# Altium integrated library Analog Devices Switches and Multiplexers Analog Switches.IntLib: 575 symbols (part 7 of 23)
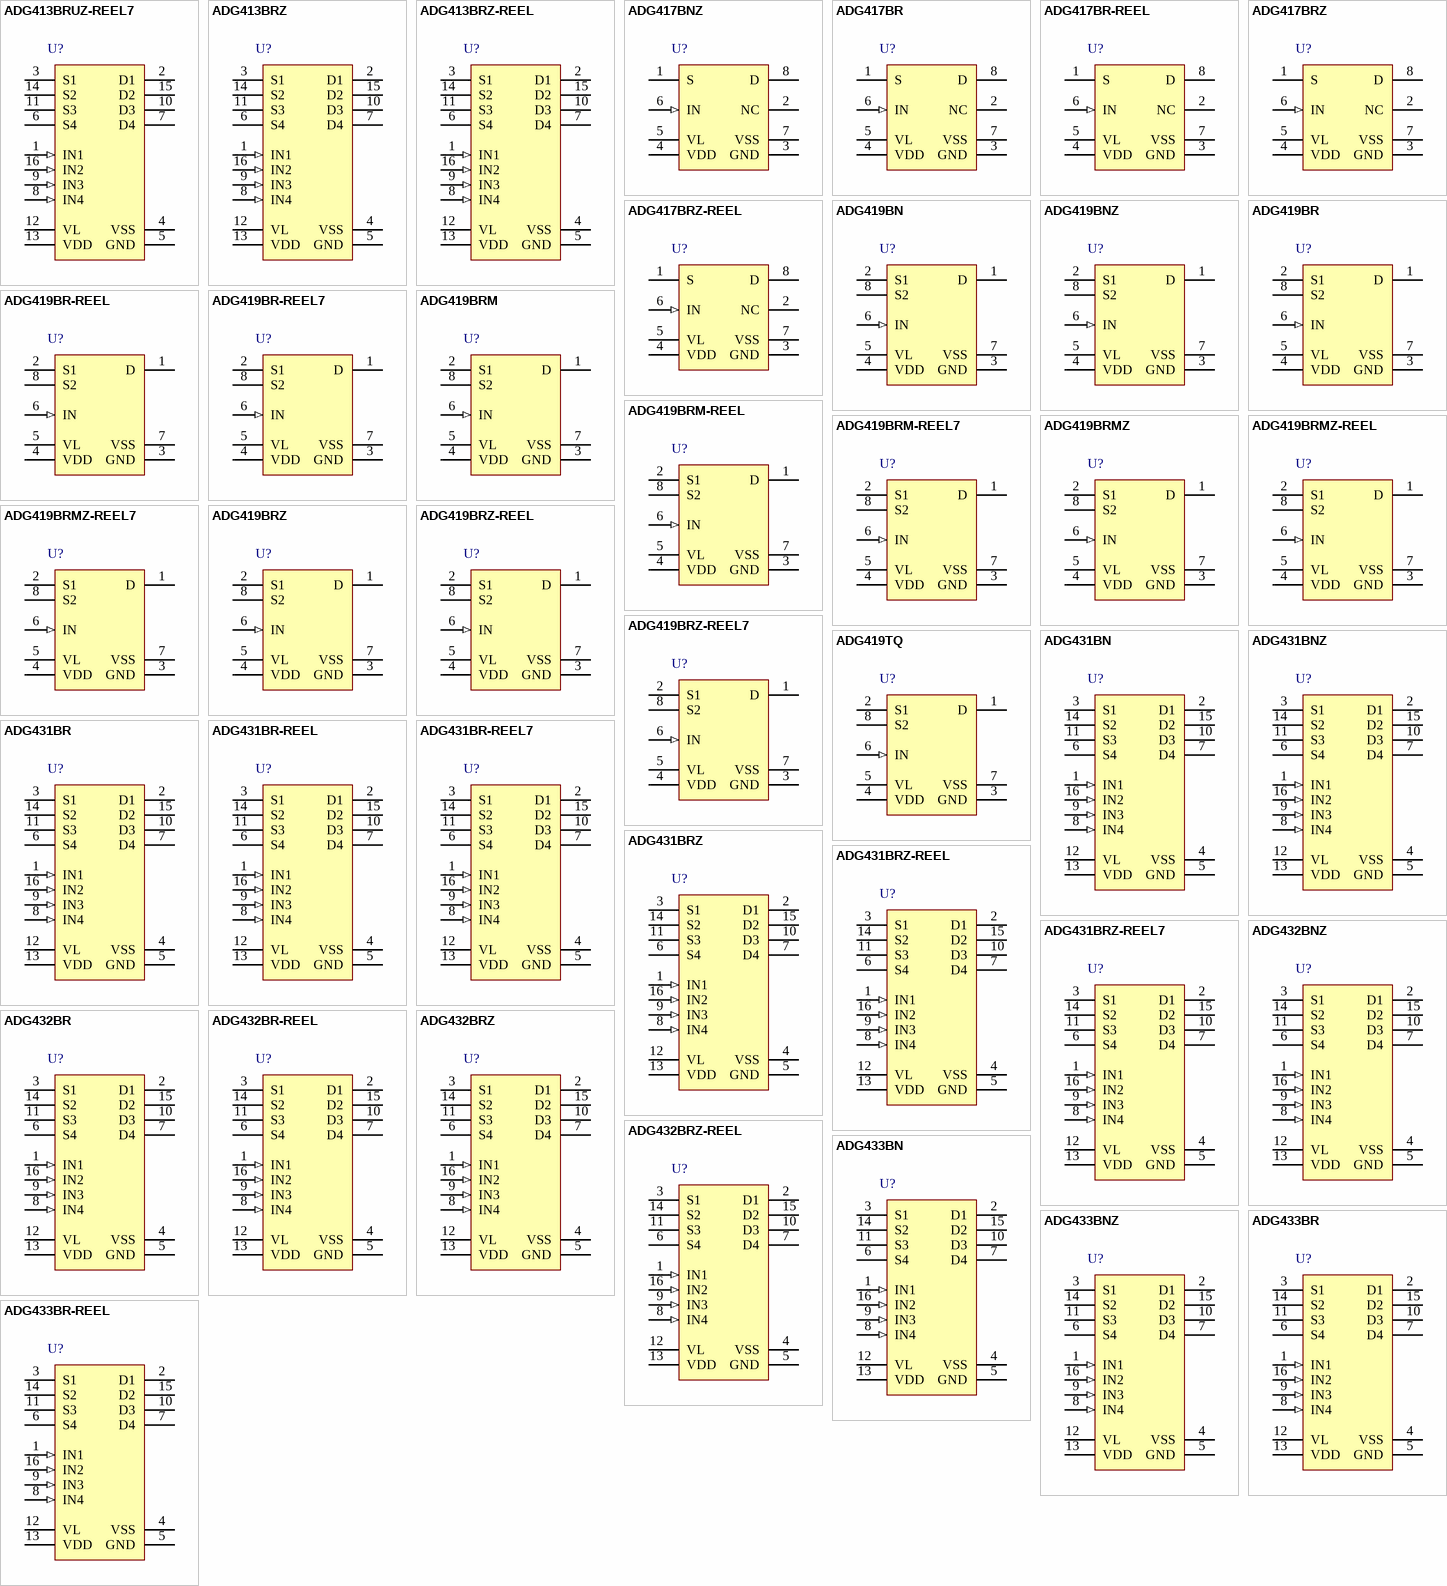
[diagram p21: symbols ADG413BRUZ-REEL7 to ADG433BR-REEL]

## ADG431BR-REEL7
designator U?
LC2MOS Precision Quad SPST Switches, 17 Ohm Ron, 16-pin SOIC (R-16), Reel; Manufacturer: Analog Devices; PartNumber: ADG431BR-REEL7; # Sw Functions: 4; Max Neg Supply: -16.5V; Max Pos Supply: +16.5V; Ron (ohms): 17, 28; t ON: 90ns, 165ns; DatasheetVersion: Rev. C; PackageVersion: 060606-A, 06/2006; PackageReference: R-16; PackageDescription: 16-Pin Standard Small Outline Package, Body 9.9 x 3.9 mm, Pitch 1.27 mm; Supplier 1: Digi-Key; Supplier Part Number 1: ADG431BR-REEL7-ND; Supplier 2: Mouser; Supplier Part Number 2: 584-ADG431BR-R7; Configuration: SPST; Packing: Reel; Mounting Technology: Surface Mount; Code_JEDEC: MS-012-AC; ComponentLink1Description: Manufacturer URL; ComponentLink1URL: http://www.analog.com/en/index.html; ComponentLink2Description: Datasheet; ComponentLink2URL: http://www.analog.com/static/imported-files/data_sheets/ADG431_432_433.pdf; ComponentLink3Description: Package Specification; ComponentLink3URL: http://www.analog.com/static/imported-files/packages/PKG_PDF/SOIC_Narrow%20(R)/R_16.pdf
footprint ADI-R-16_N (SOIC, 16-Leads, Body 9.9x3.9mm, Pitch 1.27mm, IPC Medium Density)
footprint ADI-R-16_L (SOIC, 16-Leads, Body 9.9x3.9mm, Pitch 1.27mm, IPC High Density)
footprint ADI-R-16_M (SOIC, 16-Leads, Body 9.9x3.9mm, Pitch 1.27mm, IPC Low Density)
pins: 1 IN1 (in) "Logic Control Input.", 2 D1 "Drain Terminal. Can be an input or output.", 3 S1 "Source Terminal. Can be an input or output.", 4 VSS (power) "Most Negative Power Supply Potential.", 5 GND (power) "Ground (0 V) Reference.", 6 S4 "Source Terminal. Can be an input or output.", 7 D4 "Drain Terminal. Can be an input or output.", 8 IN4 (in) "Logic Control Input.", 9 IN3 (in) "Logic Control Input.", 10 D3 "Drain Terminal. Can be an input or output.", 11 S3 "Source Terminal. Can be an input or output.", 12 VL (power) "Logic Supply Voltage.", 13 VDD (power) "Most Positive Power Supply Potential.", 14 S2 "Source Terminal. Can be an input or output.", 15 D2 "Drain Terminal. Can be an input or output.", 16 IN2 (in) "Logic Control Input."

## ADG431BRZ
designator U?
LC2MOS Precision Quad SPST Switches, 17 Ohm Ron, 16-pin SOIC (R-16), Tube; Manufacturer: Analog Devices; PartNumber: ADG431BRZ; # Sw Functions: 4; Max Neg Supply: -16.5V; Max Pos Supply: +16.5V; Ron (ohms): 17, 28; t ON: 90ns, 165ns; DatasheetVersion: Rev. C; PackageVersion: 060606-A, 06/2006; PackageReference: R-16; PackageDescription: 16-Pin Standard Small Outline Package, Body 9.9 x 3.9 mm, Pitch 1.27 mm; Supplier 1: Digi-Key; Supplier Part Number 1: ADG431BRZ-ND; Supplier 2: Farnell; Supplier Part Number 2: 2305649; Supplier 3: Newark; Supplier Part Number 3: 59K1277; Supplier 4: Mouser; Supplier Part Number 4: 584-ADG431BRZ; Configuration: SPST; Packing: Tube; Mounting Technology: Surface Mount; Code_JEDEC: MS-012-AC; ComponentLink1Description: Manufacturer URL; ComponentLink1URL: http://www.analog.com/en/index.html; ComponentLink2Description: Datasheet; ComponentLink2URL: http://www.analog.com/static/imported-files/data_sheets/ADG431_432_433.pdf; ComponentLink3Description: Package Specification; ComponentLink3URL: http://www.analog.com/static/imported-files/packages/PKG_PDF/SOIC_Narrow%20(R)/R_16.pdf
footprint ADI-R-16_N (SOIC, 16-Leads, Body 9.9x3.9mm, Pitch 1.27mm, IPC Medium Density)
footprint ADI-R-16_L (SOIC, 16-Leads, Body 9.9x3.9mm, Pitch 1.27mm, IPC High Density)
footprint ADI-R-16_M (SOIC, 16-Leads, Body 9.9x3.9mm, Pitch 1.27mm, IPC Low Density)
pins: 1 IN1 (in) "Logic Control Input.", 2 D1 "Drain Terminal. Can be an input or output.", 3 S1 "Source Terminal. Can be an input or output.", 4 VSS (power) "Most Negative Power Supply Potential.", 5 GND (power) "Ground (0 V) Reference.", 6 S4 "Source Terminal. Can be an input or output.", 7 D4 "Drain Terminal. Can be an input or output.", 8 IN4 (in) "Logic Control Input.", 9 IN3 (in) "Logic Control Input.", 10 D3 "Drain Terminal. Can be an input or output.", 11 S3 "Source Terminal. Can be an input or output.", 12 VL (power) "Logic Supply Voltage.", 13 VDD (power) "Most Positive Power Supply Potential.", 14 S2 "Source Terminal. Can be an input or output.", 15 D2 "Drain Terminal. Can be an input or output.", 16 IN2 (in) "Logic Control Input."

## ADG431BRZ-REEL
designator U?
LC2MOS Precision Quad SPST Switches, 17 Ohm Ron, 16-pin SOIC (R-16), Reel; Manufacturer: Analog Devices; PartNumber: ADG431BRZ-REEL; # Sw Functions: 4; Max Neg Supply: -16.5V; Max Pos Supply: +16.5V; Ron (ohms): 17, 28; t ON: 90ns, 165ns; DatasheetVersion: Rev. C; PackageVersion: 060606-A, 06/2006; PackageReference: R-16; PackageDescription: 16-Pin Standard Small Outline Package, Body 9.9 x 3.9 mm, Pitch 1.27 mm; Supplier 1: Digi-Key; Supplier Part Number 1: ADG431BRZ-REEL-ND; Supplier 2: Newark; Supplier Part Number 2: 59K1278; Supplier 3: Mouser; Supplier Part Number 3: 584-ADG431BRZ-R; Configuration: SPST; Packing: Reel; Mounting Technology: Surface Mount; Code_JEDEC: MS-012-AC; ComponentLink1Description: Manufacturer URL; ComponentLink1URL: http://www.analog.com/en/index.html; ComponentLink2Description: Datasheet; ComponentLink2URL: http://www.analog.com/static/imported-files/data_sheets/ADG431_432_433.pdf; ComponentLink3Description: Package Specification; ComponentLink3URL: http://www.analog.com/static/imported-files/packages/PKG_PDF/SOIC_Narrow%20(R)/R_16.pdf
footprint ADI-R-16_N (SOIC, 16-Leads, Body 9.9x3.9mm, Pitch 1.27mm, IPC Medium Density)
footprint ADI-R-16_L (SOIC, 16-Leads, Body 9.9x3.9mm, Pitch 1.27mm, IPC High Density)
footprint ADI-R-16_M (SOIC, 16-Leads, Body 9.9x3.9mm, Pitch 1.27mm, IPC Low Density)
pins: 1 IN1 (in) "Logic Control Input.", 2 D1 "Drain Terminal. Can be an input or output.", 3 S1 "Source Terminal. Can be an input or output.", 4 VSS (power) "Most Negative Power Supply Potential.", 5 GND (power) "Ground (0 V) Reference.", 6 S4 "Source Terminal. Can be an input or output.", 7 D4 "Drain Terminal. Can be an input or output.", 8 IN4 (in) "Logic Control Input.", 9 IN3 (in) "Logic Control Input.", 10 D3 "Drain Terminal. Can be an input or output.", 11 S3 "Source Terminal. Can be an input or output.", 12 VL (power) "Logic Supply Voltage.", 13 VDD (power) "Most Positive Power Supply Potential.", 14 S2 "Source Terminal. Can be an input or output.", 15 D2 "Drain Terminal. Can be an input or output.", 16 IN2 (in) "Logic Control Input."

## ADG431BRZ-REEL7
designator U?
LC2MOS Precision Quad SPST Switches, 17 Ohm Ron, 16-pin SOIC (R-16), Reel; Manufacturer: Analog Devices; PartNumber: ADG431BRZ-REEL7; # Sw Functions: 4; Max Neg Supply: -16.5V; Max Pos Supply: +16.5V; Ron (ohms): 17, 28; t ON: 90ns, 165ns; DatasheetVersion: Rev. C; PackageVersion: 060606-A, 06/2006; PackageReference: R-16; PackageDescription: 16-Pin Standard Small Outline Package, Body 9.9 x 3.9 mm, Pitch 1.27 mm; Supplier 1: Digi-Key; Supplier Part Number 1: ADG431BRZ-REEL7TR-ND; Supplier 2: Digi-Key; Supplier Part Number 2: ADG431BRZ-REEL7CT-ND; Supplier 3: Digi-Key; Supplier Part Number 3: ADG431BRZ-REEL7DKR-ND; Supplier 4: Mouser; Supplier Part Number 4: 584-ADG431BRZ-R7; Configuration: SPST; Packing: Reel; Mounting Technology: Surface Mount; Code_JEDEC: MS-012-AC; ComponentLink1Description: Manufacturer URL; ComponentLink1URL: http://www.analog.com/en/index.html; ComponentLink2Description: Datasheet; ComponentLink2URL: http://www.analog.com/static/imported-files/data_sheets/ADG431_432_433.pdf; ComponentLink3Description: Package Specification; ComponentLink3URL: http://www.analog.com/static/imported-files/packages/PKG_PDF/SOIC_Narrow%20(R)/R_16.pdf
footprint ADI-R-16_N (SOIC, 16-Leads, Body 9.9x3.9mm, Pitch 1.27mm, IPC Medium Density)
footprint ADI-R-16_L (SOIC, 16-Leads, Body 9.9x3.9mm, Pitch 1.27mm, IPC High Density)
footprint ADI-R-16_M (SOIC, 16-Leads, Body 9.9x3.9mm, Pitch 1.27mm, IPC Low Density)
pins: 1 IN1 (in) "Logic Control Input.", 2 D1 "Drain Terminal. Can be an input or output.", 3 S1 "Source Terminal. Can be an input or output.", 4 VSS (power) "Most Negative Power Supply Potential.", 5 GND (power) "Ground (0 V) Reference.", 6 S4 "Source Terminal. Can be an input or output.", 7 D4 "Drain Terminal. Can be an input or output.", 8 IN4 (in) "Logic Control Input.", 9 IN3 (in) "Logic Control Input.", 10 D3 "Drain Terminal. Can be an input or output.", 11 S3 "Source Terminal. Can be an input or output.", 12 VL (power) "Logic Supply Voltage.", 13 VDD (power) "Most Positive Power Supply Potential.", 14 S2 "Source Terminal. Can be an input or output.", 15 D2 "Drain Terminal. Can be an input or output.", 16 IN2 (in) "Logic Control Input."

## ADG432BNZ
designator U?
LC2MOS Precision Quad SPST Switches, 17 Ohm Ron, 16-pin DIP (N-16), Tube; Manufacturer: Analog Devices; PartNumber: ADG432BNZ; # Sw Functions: 4; Max Neg Supply: -16.5V; Max Pos Supply: +16.5V; Ron (ohms): 17, 28; t ON: 90ns, 165ns; DatasheetVersion: Rev. C; PackageVersion: 070706-A, 07/2006; PackageReference: N-16; PackageDescription: 16-Pin Plastic Dual In-Line Package, Row spacing 7.62 mm, Pitch 2.54 mm; Supplier 1: Digi-Key; Supplier Part Number 1: ADG432BNZ-ND; Supplier 2: Newark; Supplier Part Number 2: 59K1283; Configuration: SPST; Packing: Tube; Mounting Technology: Through Hole; Code_JEDEC: MS-001; ComponentLink1Description: Manufacturer URL; ComponentLink1URL: http://www.analog.com/en/index.html; ComponentLink2Description: Datasheet; ComponentLink2URL: http://www.analog.com/static/imported-files/data_sheets/ADG431_432_433.pdf; ComponentLink3Description: Package Specification; ComponentLink3URL: http://www.analog.com/static/imported-files/packages/44768431550332N_16.pdf
footprint ADI-N-16 (DIP, 16-Leads, Body 20.07x6.6mm, Pitch 2.54mm)
pins: 1 IN1 (in) "Logic control input.", 2 D1 "Drain terminal. May be an input or output.", 3 S1 "Source terminal. May be an input or output.", 4 VSS (power) "Most negative power supply potential in dual supplies. In single supply applications, it may be connected to GND.", 5 GND (power) "Ground (0 V) reference.", 6 S4 "Source terminal. May be an input or output.", 7 D4 "Drain terminal. May be an input or output.", 8 IN4 (in) "Logic control input.", 9 IN3 (in) "Logic control input.", 10 D3 "Drain terminal. May be an input or output.", 11 S3 "Source terminal. May be an input or output.", 12 VL (power) "Logic power supply (5 V).", 13 VDD (power) "Most positive power supply potential.", 14 S2 "Source terminal. May be an input or output.", 15 D2 "Drain terminal. May be an input or output.", 16 IN2 (in) "Logic control input."

## ADG432BR
designator U?
LC2MOS Precision Quad SPST Switches, 17 Ohm Ron, 16-pin SOIC (R-16), Tube; Manufacturer: Analog Devices; PartNumber: ADG432BR; # Sw Functions: 4; Max Neg Supply: -16.5V; Max Pos Supply: +16.5V; Ron (ohms): 17, 28; t ON: 90ns, 165ns; DatasheetVersion: Rev. C; PackageVersion: 060606-A, 06/2006; PackageReference: R-16; PackageDescription: 16-Pin Standard Small Outline Package, Body 9.9 x 3.9 mm, Pitch 1.27 mm; Supplier 1: Digi-Key; Supplier Part Number 1: ADG432BR-ND; Supplier 2: Mouser; Supplier Part Number 2: 584-ADG432BR; Configuration: SPST; Packing: Tube; Mounting Technology: Surface Mount; Code_JEDEC: MS-012-AC; ComponentLink1Description: Manufacturer URL; ComponentLink1URL: http://www.analog.com/en/index.html; ComponentLink2Description: Datasheet; ComponentLink2URL: http://www.analog.com/static/imported-files/data_sheets/ADG431_432_433.pdf; ComponentLink3Description: Package Specification; ComponentLink3URL: http://www.analog.com/static/imported-files/packages/PKG_PDF/SOIC_Narrow%20(R)/R_16.pdf
footprint ADI-R-16_N (SOIC, 16-Leads, Body 9.9x3.9mm, Pitch 1.27mm, IPC Medium Density)
footprint ADI-R-16_L (SOIC, 16-Leads, Body 9.9x3.9mm, Pitch 1.27mm, IPC High Density)
footprint ADI-R-16_M (SOIC, 16-Leads, Body 9.9x3.9mm, Pitch 1.27mm, IPC Low Density)
pins: 1 IN1 (in) "Logic control input.", 2 D1 "Drain terminal. May be an input or output.", 3 S1 "Source terminal. May be an input or output.", 4 VSS (power) "Most negative power supply potential in dual supplies. In single supply applications, it may be connected to GND.", 5 GND (power) "Ground (0 V) reference.", 6 S4 "Source terminal. May be an input or output.", 7 D4 "Drain terminal. May be an input or output.", 8 IN4 (in) "Logic control input.", 9 IN3 (in) "Logic control input.", 10 D3 "Drain terminal. May be an input or output.", 11 S3 "Source terminal. May be an input or output.", 12 VL (power) "Logic power supply (5 V).", 13 VDD (power) "Most positive power supply potential.", 14 S2 "Source terminal. May be an input or output.", 15 D2 "Drain terminal. May be an input or output.", 16 IN2 (in) "Logic control input."

## ADG432BR-REEL
designator U?
LC2MOS Precision Quad SPST Switches, 17 Ohm Ron, 16-pin SOIC (R-16), Reel; Manufacturer: Analog Devices; PartNumber: ADG432BR-REEL; # Sw Functions: 4; Max Neg Supply: -16.5V; Max Pos Supply: +16.5V; Ron (ohms): 17, 28; t ON: 90ns, 165ns; DatasheetVersion: Rev. C; PackageVersion: 060606-A, 06/2006; PackageReference: R-16; PackageDescription: 16-Pin Standard Small Outline Package, Body 9.9 x 3.9 mm, Pitch 1.27 mm; Supplier 1: Digi-Key; Supplier Part Number 1: ADG432BR-REEL-ND; Supplier 2: Newark; Supplier Part Number 2: 09B7052; Supplier 3: Mouser; Supplier Part Number 3: 584-ADG432BR-R; Configuration: SPST; Packing: Reel; Mounting Technology: Surface Mount; Code_JEDEC: MS-012-AC; ComponentLink1Description: Manufacturer URL; ComponentLink1URL: http://www.analog.com/en/index.html; ComponentLink2Description: Datasheet; ComponentLink2URL: http://www.analog.com/static/imported-files/data_sheets/ADG431_432_433.pdf; ComponentLink3Description: Package Specification; ComponentLink3URL: http://www.analog.com/static/imported-files/packages/PKG_PDF/SOIC_Narrow%20(R)/R_16.pdf
footprint ADI-R-16_N (SOIC, 16-Leads, Body 9.9x3.9mm, Pitch 1.27mm, IPC Medium Density)
footprint ADI-R-16_L (SOIC, 16-Leads, Body 9.9x3.9mm, Pitch 1.27mm, IPC High Density)
footprint ADI-R-16_M (SOIC, 16-Leads, Body 9.9x3.9mm, Pitch 1.27mm, IPC Low Density)
pins: 1 IN1 (in) "Logic control input.", 2 D1 "Drain terminal. May be an input or output.", 3 S1 "Source terminal. May be an input or output.", 4 VSS (power) "Most negative power supply potential in dual supplies. In single supply applications, it may be connected to GND.", 5 GND (power) "Ground (0 V) reference.", 6 S4 "Source terminal. May be an input or output.", 7 D4 "Drain terminal. May be an input or output.", 8 IN4 (in) "Logic control input.", 9 IN3 (in) "Logic control input.", 10 D3 "Drain terminal. May be an input or output.", 11 S3 "Source terminal. May be an input or output.", 12 VL (power) "Logic power supply (5 V).", 13 VDD (power) "Most positive power supply potential.", 14 S2 "Source terminal. May be an input or output.", 15 D2 "Drain terminal. May be an input or output.", 16 IN2 (in) "Logic control input."

## ADG432BRZ
designator U?
LC2MOS Precision Quad SPST Switches, 17 Ohm Ron, 16-pin SOIC (R-16), Tube; Manufacturer: Analog Devices; PartNumber: ADG432BRZ; # Sw Functions: 4; Max Neg Supply: -16.5V; Max Pos Supply: +16.5V; Ron (ohms): 17, 28; t ON: 90ns, 165ns; DatasheetVersion: Rev. C; PackageVersion: 060606-A, 06/2006; PackageReference: R-16; PackageDescription: 16-Pin Standard Small Outline Package, Body 9.9 x 3.9 mm, Pitch 1.27 mm; Supplier 1: Digi-Key; Supplier Part Number 1: ADG432BRZ-ND; Supplier 2: Farnell; Supplier Part Number 2: 2305650; Supplier 3: Newark; Supplier Part Number 3: 59K1284; Supplier 4: Mouser; Supplier Part Number 4: 584-ADG432BRZ; Configuration: SPST; Packing: Tube; Mounting Technology: Surface Mount; Code_JEDEC: MS-012-AC; ComponentLink1Description: Manufacturer URL; ComponentLink1URL: http://www.analog.com/en/index.html; ComponentLink2Description: Datasheet; ComponentLink2URL: http://www.analog.com/static/imported-files/data_sheets/ADG431_432_433.pdf; ComponentLink3Description: Package Specification; ComponentLink3URL: http://www.analog.com/static/imported-files/packages/PKG_PDF/SOIC_Narrow%20(R)/R_16.pdf
footprint ADI-R-16_N (SOIC, 16-Leads, Body 9.9x3.9mm, Pitch 1.27mm, IPC Medium Density)
footprint ADI-R-16_L (SOIC, 16-Leads, Body 9.9x3.9mm, Pitch 1.27mm, IPC High Density)
footprint ADI-R-16_M (SOIC, 16-Leads, Body 9.9x3.9mm, Pitch 1.27mm, IPC Low Density)
pins: 1 IN1 (in) "Logic control input.", 2 D1 "Drain terminal. May be an input or output.", 3 S1 "Source terminal. May be an input or output.", 4 VSS (power) "Most negative power supply potential in dual supplies. In single supply applications, it may be connected to GND.", 5 GND (power) "Ground (0 V) reference.", 6 S4 "Source terminal. May be an input or output.", 7 D4 "Drain terminal. May be an input or output.", 8 IN4 (in) "Logic control input.", 9 IN3 (in) "Logic control input.", 10 D3 "Drain terminal. May be an input or output.", 11 S3 "Source terminal. May be an input or output.", 12 VL (power) "Logic power supply (5 V).", 13 VDD (power) "Most positive power supply potential.", 14 S2 "Source terminal. May be an input or output.", 15 D2 "Drain terminal. May be an input or output.", 16 IN2 (in) "Logic control input."

## ADG432BRZ-REEL
designator U?
LC2MOS Precision Quad SPST Switches, 17 Ohm Ron, 16-pin SOIC (R-16), Reel; Manufacturer: Analog Devices; PartNumber: ADG432BRZ-REEL; # Sw Functions: 4; Max Neg Supply: -16.5V; Max Pos Supply: +16.5V; Ron (ohms): 17, 28; t ON: 90ns, 165ns; DatasheetVersion: Rev. C; PackageVersion: 060606-A, 06/2006; PackageReference: R-16; PackageDescription: 16-Pin Standard Small Outline Package, Body 9.9 x 3.9 mm, Pitch 1.27 mm; Supplier 1: Digi-Key; Supplier Part Number 1: ADG432BRZ-REEL-ND; Supplier 2: Mouser; Supplier Part Number 2: 584-ADG432BRZ-R; Configuration: SPST; Packing: Reel; Mounting Technology: Surface Mount; Code_JEDEC: MS-012-AC; ComponentLink1Description: Manufacturer URL; ComponentLink1URL: http://www.analog.com/en/index.html; ComponentLink2Description: Datasheet; ComponentLink2URL: http://www.analog.com/static/imported-files/data_sheets/ADG431_432_433.pdf; ComponentLink3Description: Package Specification; ComponentLink3URL: http://www.analog.com/static/imported-files/packages/PKG_PDF/SOIC_Narrow%20(R)/R_16.pdf
footprint ADI-R-16_N (SOIC, 16-Leads, Body 9.9x3.9mm, Pitch 1.27mm, IPC Medium Density)
footprint ADI-R-16_L (SOIC, 16-Leads, Body 9.9x3.9mm, Pitch 1.27mm, IPC High Density)
footprint ADI-R-16_M (SOIC, 16-Leads, Body 9.9x3.9mm, Pitch 1.27mm, IPC Low Density)
pins: 1 IN1 (in) "Logic control input.", 2 D1 "Drain terminal. May be an input or output.", 3 S1 "Source terminal. May be an input or output.", 4 VSS (power) "Most negative power supply potential in dual supplies. In single supply applications, it may be connected to GND.", 5 GND (power) "Ground (0 V) reference.", 6 S4 "Source terminal. May be an input or output.", 7 D4 "Drain terminal. May be an input or output.", 8 IN4 (in) "Logic control input.", 9 IN3 (in) "Logic control input.", 10 D3 "Drain terminal. May be an input or output.", 11 S3 "Source terminal. May be an input or output.", 12 VL (power) "Logic power supply (5 V).", 13 VDD (power) "Most positive power supply potential.", 14 S2 "Source terminal. May be an input or output.", 15 D2 "Drain terminal. May be an input or output.", 16 IN2 (in) "Logic control input."

## ADG433BN
designator U?
LC2MOS Precision Quad SPST Switches, 17 Ohm Ron, 16-pin DIP (N-16), Tube; Manufacturer: Analog Devices; PartNumber: ADG433BN; # Sw Functions: 4; Max Neg Supply: -16.5V; Max Pos Supply: +16.5V; Ron (ohms): 17, 28; t ON: 90ns, 165ns; DatasheetVersion: Rev. C; PackageVersion: 070706-A, 07/2006; PackageReference: N-16; PackageDescription: 16-Pin Plastic Dual In-Line Package, Row spacing 7.62 mm, Pitch 2.54 mm; Supplier 1: Digi-Key; Supplier Part Number 1: ADG433BN-ND; Configuration: SPST; Packing: Tube; Mounting Technology: Through Hole; Code_JEDEC: MS-001; ComponentLink1Description: Manufacturer URL; ComponentLink1URL: http://www.analog.com/en/index.html; ComponentLink2Description: Datasheet; ComponentLink2URL: http://www.analog.com/static/imported-files/data_sheets/ADG431_432_433.pdf; ComponentLink3Description: Package Specification; ComponentLink3URL: http://www.analog.com/static/imported-files/packages/44768431550332N_16.pdf
footprint ADI-N-16 (DIP, 16-Leads, Body 20.07x6.6mm, Pitch 2.54mm)
pins: 1 IN1 (in) "Logic control input.", 2 D1 "Drain terminal. May be an input or output.", 3 S1 "Source terminal. May be an input or output.", 4 VSS (power) "Most negative power supply potential in dual supplies. In single supply applications, it may be connected to GND.", 5 GND (power) "Ground (0 V) reference.", 6 S4 "Source terminal. May be an input or output.", 7 D4 "Drain terminal. May be an input or output.", 8 IN4 (in) "Logic control input.", 9 IN3 (in) "Logic control input.", 10 D3 "Drain terminal. May be an input or output.", 11 S3 "Source terminal. May be an input or output.", 12 VL (power) "Logic power supply (5 V).", 13 VDD (power) "Most positive power supply potential.", 14 S2 "Source terminal. May be an input or output.", 15 D2 "Drain terminal. May be an input or output.", 16 IN2 (in) "Logic control input."

## ADG433BNZ
designator U?
LC2MOS Precision Quad SPST Switches, 17 Ohm Ron, 16-pin DIP (N-16), Tube; Manufacturer: Analog Devices; PartNumber: ADG433BNZ; # Sw Functions: 4; Max Neg Supply: -16.5V; Max Pos Supply: +16.5V; Ron (ohms): 17, 28; t ON: 90ns, 165ns; DatasheetVersion: Rev. C; PackageVersion: 070706-A, 07/2006; PackageReference: N-16; PackageDescription: 16-Pin Plastic Dual In-Line Package, Row spacing 7.62 mm, Pitch 2.54 mm; Supplier 1: Digi-Key; Supplier Part Number 1: ADG433BNZ-ND; Configuration: SPST; Packing: Tube; Mounting Technology: Through Hole; Code_JEDEC: MS-001; ComponentLink1Description: Manufacturer URL; ComponentLink1URL: http://www.analog.com/en/index.html; ComponentLink2Description: Datasheet; ComponentLink2URL: http://www.analog.com/static/imported-files/data_sheets/ADG431_432_433.pdf; ComponentLink3Description: Package Specification; ComponentLink3URL: http://www.analog.com/static/imported-files/packages/44768431550332N_16.pdf
footprint ADI-N-16 (DIP, 16-Leads, Body 20.07x6.6mm, Pitch 2.54mm)
pins: 1 IN1 (in) "Logic control input.", 2 D1 "Drain terminal. May be an input or output.", 3 S1 "Source terminal. May be an input or output.", 4 VSS (power) "Most negative power supply potential in dual supplies. In single supply applications, it may be connected to GND.", 5 GND (power) "Ground (0 V) reference.", 6 S4 "Source terminal. May be an input or output.", 7 D4 "Drain terminal. May be an input or output.", 8 IN4 (in) "Logic control input.", 9 IN3 (in) "Logic control input.", 10 D3 "Drain terminal. May be an input or output.", 11 S3 "Source terminal. May be an input or output.", 12 VL (power) "Logic power supply (5 V).", 13 VDD (power) "Most positive power supply potential.", 14 S2 "Source terminal. May be an input or output.", 15 D2 "Drain terminal. May be an input or output.", 16 IN2 (in) "Logic control input."

## ADG433BR
designator U?
LC2MOS Precision Quad SPST Switches, 17 Ohm Ron, 16-pin SOIC (R-16), Tube; Manufacturer: Analog Devices; PartNumber: ADG433BR; # Sw Functions: 4; Max Neg Supply: -16.5V; Max Pos Supply: +16.5V; Ron (ohms): 17, 28; t ON: 90ns, 165ns; DatasheetVersion: Rev. C; PackageVersion: 060606-A, 06/2006; PackageReference: R-16; PackageDescription: 16-Pin Standard Small Outline Package, Body 9.9 x 3.9 mm, Pitch 1.27 mm; Supplier 1: Digi-Key; Supplier Part Number 1: ADG433BR-ND; Supplier 2: Mouser; Supplier Part Number 2: 584-ADG433BR; Configuration: SPST; Packing: Tube; Mounting Technology: Surface Mount; Code_JEDEC: MS-012-AC; ComponentLink1Description: Manufacturer URL; ComponentLink1URL: http://www.analog.com/en/index.html; ComponentLink2Description: Datasheet; ComponentLink2URL: http://www.analog.com/static/imported-files/data_sheets/ADG431_432_433.pdf; ComponentLink3Description: Package Specification; ComponentLink3URL: http://www.analog.com/static/imported-files/packages/PKG_PDF/SOIC_Narrow%20(R)/R_16.pdf
footprint ADI-R-16_N (SOIC, 16-Leads, Body 9.9x3.9mm, Pitch 1.27mm, IPC Medium Density)
footprint ADI-R-16_L (SOIC, 16-Leads, Body 9.9x3.9mm, Pitch 1.27mm, IPC High Density)
footprint ADI-R-16_M (SOIC, 16-Leads, Body 9.9x3.9mm, Pitch 1.27mm, IPC Low Density)
pins: 1 IN1 (in) "Logic Control Input.", 2 D1 "Drain Terminal. Can be an input or output.", 3 S1 "Source Terminal. Can be an input or output.", 4 VSS (power) "Most Negative Power Supply Potential.", 5 GND (power) "Ground (0 V) Reference.", 6 S4 "Source Terminal. Can be an input or output.", 7 D4 "Drain Terminal. Can be an input or output.", 8 IN4 (in) "Logic Control Input.", 9 IN3 (in) "Logic Control Input.", 10 D3 "Drain Terminal. Can be an input or output.", 11 S3 "Source Terminal. Can be an input or output.", 12 VL (power) "Logic Supply Voltage.", 13 VDD (power) "Most Positive Power Supply Potential.", 14 S2 "Source Terminal. Can be an input or output.", 15 D2 "Drain Terminal. Can be an input or output.", 16 IN2 (in) "Logic Control Input."

## ADG433BR-REEL
designator U?
LC2MOS Precision Quad SPST Switches, 17 Ohm Ron, 16-pin SOIC (R-16), Reel; Manufacturer: Analog Devices; PartNumber: ADG433BR-REEL; # Sw Functions: 4; Max Neg Supply: -16.5V; Max Pos Supply: +16.5V; Ron (ohms): 17, 28; t ON: 90ns, 165ns; DatasheetVersion: Rev. C; PackageVersion: 060606-A, 06/2006; PackageReference: R-16; PackageDescription: 16-Pin Standard Small Outline Package, Body 9.9 x 3.9 mm, Pitch 1.27 mm; Configuration: SPST; Packing: Reel; Mounting Technology: Surface Mount; Code_JEDEC: MS-012-AC; ComponentLink1Description: Manufacturer URL; ComponentLink1URL: http://www.analog.com/en/index.html; ComponentLink2Description: Datasheet; ComponentLink2URL: http://www.analog.com/static/imported-files/data_sheets/ADG431_432_433.pdf; ComponentLink3Description: Package Specification; ComponentLink3URL: http://www.analog.com/static/imported-files/packages/PKG_PDF/SOIC_Narrow%20(R)/R_16.pdf
footprint ADI-R-16_N (SOIC, 16-Leads, Body 9.9x3.9mm, Pitch 1.27mm, IPC Medium Density)
footprint ADI-R-16_L (SOIC, 16-Leads, Body 9.9x3.9mm, Pitch 1.27mm, IPC High Density)
footprint ADI-R-16_M (SOIC, 16-Leads, Body 9.9x3.9mm, Pitch 1.27mm, IPC Low Density)
pins: 1 IN1 (in) "Logic Control Input.", 2 D1 "Drain Terminal. Can be an input or output.", 3 S1 "Source Terminal. Can be an input or output.", 4 VSS (power) "Most Negative Power Supply Potential.", 5 GND (power) "Ground (0 V) Reference.", 6 S4 "Source Terminal. Can be an input or output.", 7 D4 "Drain Terminal. Can be an input or output.", 8 IN4 (in) "Logic Control Input.", 9 IN3 (in) "Logic Control Input.", 10 D3 "Drain Terminal. Can be an input or output.", 11 S3 "Source Terminal. Can be an input or output.", 12 VL (power) "Logic Supply Voltage.", 13 VDD (power) "Most Positive Power Supply Potential.", 14 S2 "Source Terminal. Can be an input or output.", 15 D2 "Drain Terminal. Can be an input or output.", 16 IN2 (in) "Logic Control Input."

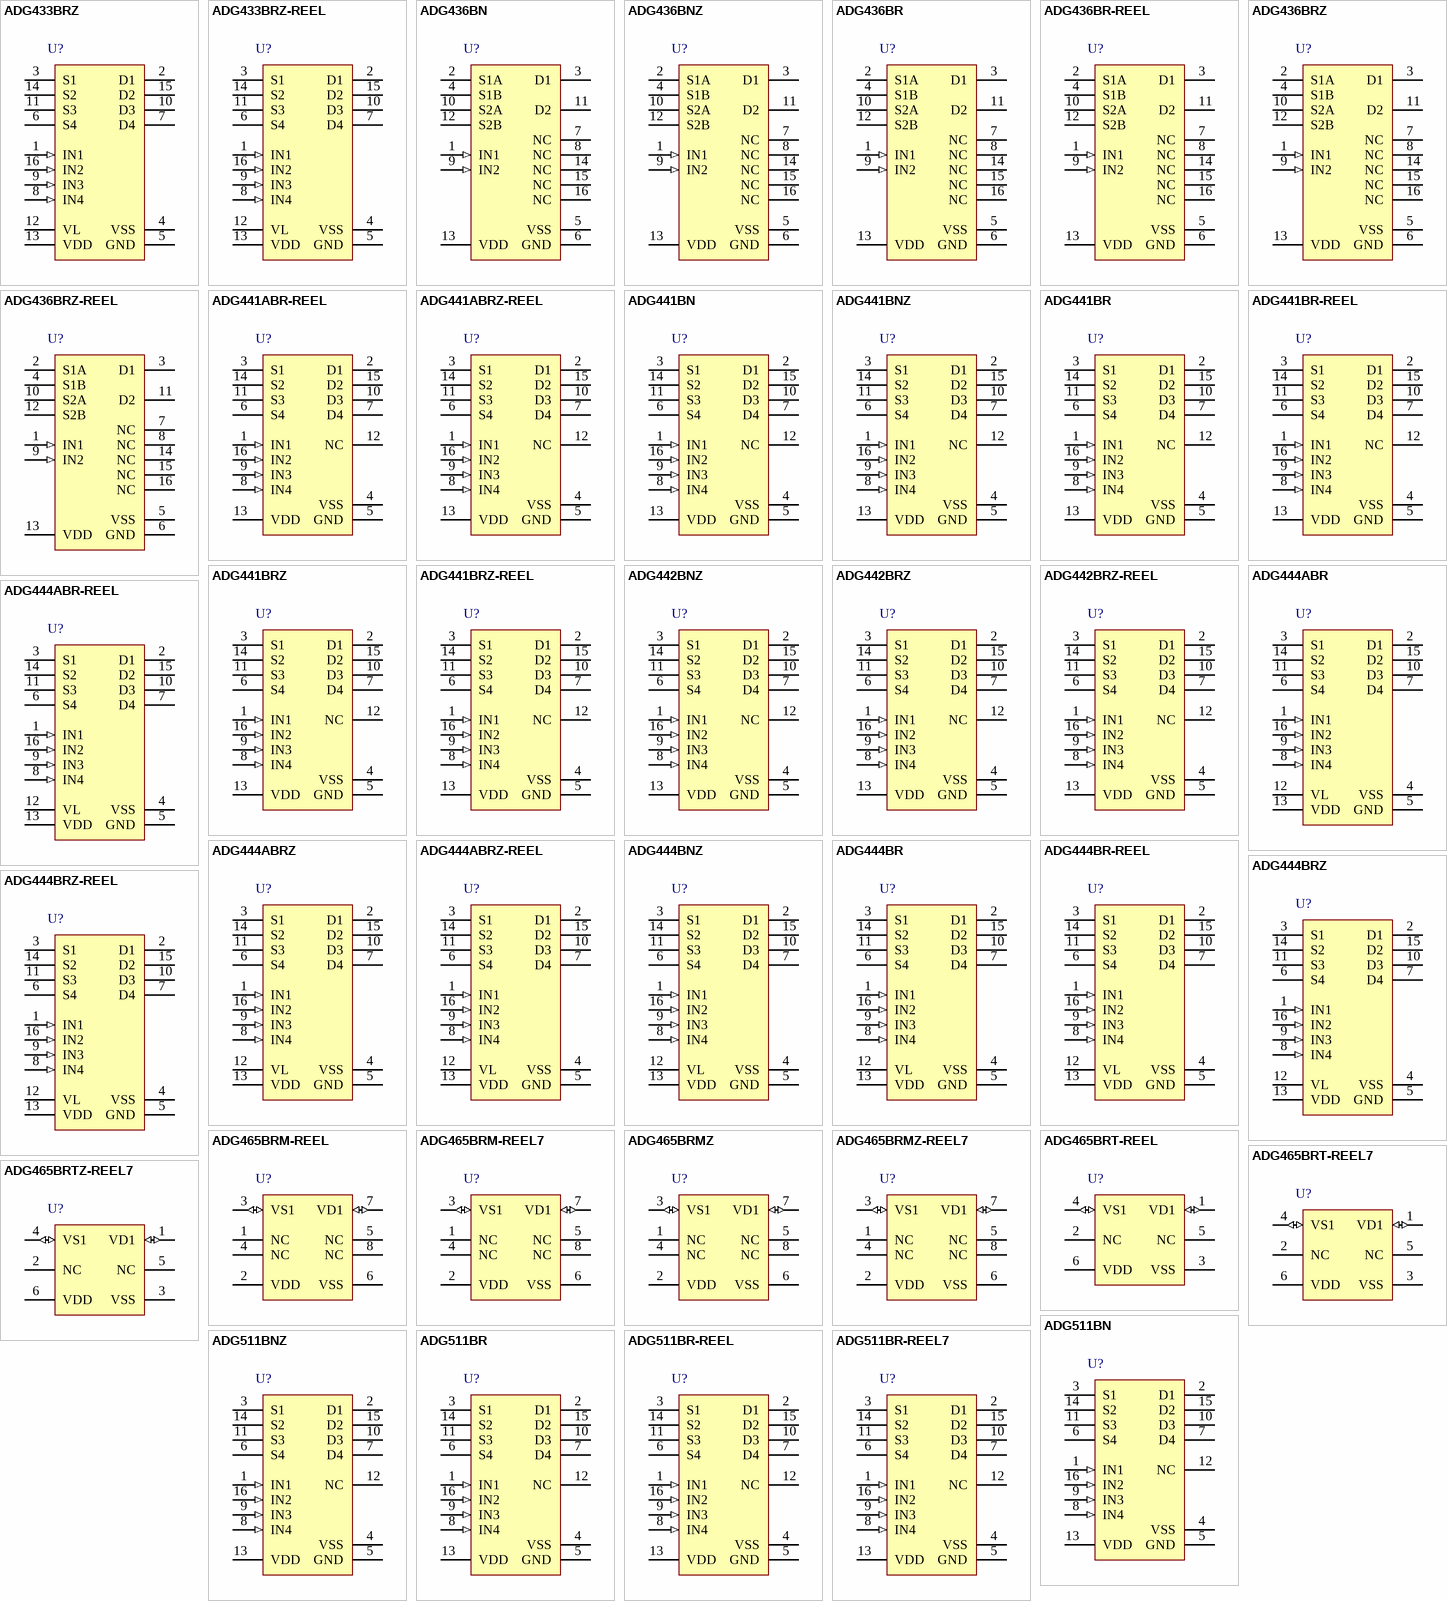
[diagram p5: symbols ADG433BRZ to ADG511BR-REEL7]

## ADG433BRZ
designator U?
LC2MOS Precision Quad SPST Switches, 17 Ohm Ron, 16-pin SOIC (R-16), Tube; Manufacturer: Analog Devices; PartNumber: ADG433BRZ; # Sw Functions: 4; Max Neg Supply: -16.5V; Max Pos Supply: +16.5V; Ron (ohms): 17, 28; t ON: 90ns, 165ns; DatasheetVersion: Rev. C; PackageVersion: 060606-A, 06/2006; PackageReference: R-16; PackageDescription: 16-Pin Standard Small Outline Package, Body 9.9 x 3.9 mm, Pitch 1.27 mm; Supplier 1: Digi-Key; Supplier Part Number 1: ADG433BRZ-ND; Supplier 2: Farnell; Supplier Part Number 2: 1438707; Supplier 3: Newark; Supplier Part Number 3: 59K1290; Supplier 4: Mouser; Supplier Part Number 4: 584-ADG433BRZ; Configuration: SPST; Packing: Tube; Mounting Technology: Surface Mount; Code_JEDEC: MS-012-AC; ComponentLink1Description: Manufacturer URL; ComponentLink1URL: http://www.analog.com/en/index.html; ComponentLink2Description: Datasheet; ComponentLink2URL: http://www.analog.com/static/imported-files/data_sheets/ADG431_432_433.pdf; ComponentLink3Description: Package Specification; ComponentLink3URL: http://www.analog.com/static/imported-files/packages/PKG_PDF/SOIC_Narrow%20(R)/R_16.pdf
footprint ADI-R-16_N (SOIC, 16-Leads, Body 9.9x3.9mm, Pitch 1.27mm, IPC Medium Density)
footprint ADI-R-16_L (SOIC, 16-Leads, Body 9.9x3.9mm, Pitch 1.27mm, IPC High Density)
footprint ADI-R-16_M (SOIC, 16-Leads, Body 9.9x3.9mm, Pitch 1.27mm, IPC Low Density)
pins: 1 IN1 (in) "Logic Control Input.", 2 D1 "Drain Terminal. Can be an input or output.", 3 S1 "Source Terminal. Can be an input or output.", 4 VSS (power) "Most Negative Power Supply Potential.", 5 GND (power) "Ground (0 V) Reference.", 6 S4 "Source Terminal. Can be an input or output.", 7 D4 "Drain Terminal. Can be an input or output.", 8 IN4 (in) "Logic Control Input.", 9 IN3 (in) "Logic Control Input.", 10 D3 "Drain Terminal. Can be an input or output.", 11 S3 "Source Terminal. Can be an input or output.", 12 VL (power) "Logic Supply Voltage.", 13 VDD (power) "Most Positive Power Supply Potential.", 14 S2 "Source Terminal. Can be an input or output.", 15 D2 "Drain Terminal. Can be an input or output.", 16 IN2 (in) "Logic Control Input."

## ADG433BRZ-REEL
designator U?
LC2MOS Precision Quad SPST Switches, 17 Ohm Ron, 16-pin SOIC (R-16), Reel; Manufacturer: Analog Devices; PartNumber: ADG433BRZ-REEL; # Sw Functions: 4; Max Neg Supply: -16.5V; Max Pos Supply: +16.5V; Ron (ohms): 17, 28; t ON: 90ns, 165ns; DatasheetVersion: Rev. C; PackageVersion: 060606-A, 06/2006; PackageReference: R-16; PackageDescription: 16-Pin Standard Small Outline Package, Body 9.9 x 3.9 mm, Pitch 1.27 mm; Supplier 1: Digi-Key; Supplier Part Number 1: ADG433BRZ-REELTR-ND; Supplier 2: Digi-Key; Supplier Part Number 2: ADG433BRZ-REELCT-ND; Supplier 3: Digi-Key; Supplier Part Number 3: ADG433BRZ-REELDKR-ND; Supplier 4: Newark; Supplier Part Number 4: 59K1291; Supplier 5: Mouser; Supplier Part Number 5: 584-ADG433BRZ-R; Configuration: SPST; Packing: Reel; Mounting Technology: Surface Mount; Code_JEDEC: MS-012-AC; ComponentLink1Description: Manufacturer URL; ComponentLink1URL: http://www.analog.com/en/index.html; ComponentLink2Description: Datasheet; ComponentLink2URL: http://www.analog.com/static/imported-files/data_sheets/ADG431_432_433.pdf; ComponentLink3Description: Package Specification; ComponentLink3URL: http://www.analog.com/static/imported-files/packages/PKG_PDF/SOIC_Narrow%20(R)/R_16.pdf
footprint ADI-R-16_N (SOIC, 16-Leads, Body 9.9x3.9mm, Pitch 1.27mm, IPC Medium Density)
footprint ADI-R-16_L (SOIC, 16-Leads, Body 9.9x3.9mm, Pitch 1.27mm, IPC High Density)
footprint ADI-R-16_M (SOIC, 16-Leads, Body 9.9x3.9mm, Pitch 1.27mm, IPC Low Density)
pins: 1 IN1 (in) "Logic Control Input.", 2 D1 "Drain Terminal. Can be an input or output.", 3 S1 "Source Terminal. Can be an input or output.", 4 VSS (power) "Most Negative Power Supply Potential.", 5 GND (power) "Ground (0 V) Reference.", 6 S4 "Source Terminal. Can be an input or output.", 7 D4 "Drain Terminal. Can be an input or output.", 8 IN4 (in) "Logic Control Input.", 9 IN3 (in) "Logic Control Input.", 10 D3 "Drain Terminal. Can be an input or output.", 11 S3 "Source Terminal. Can be an input or output.", 12 VL (power) "Logic Supply Voltage.", 13 VDD (power) "Most Positive Power Supply Potential.", 14 S2 "Source Terminal. Can be an input or output.", 15 D2 "Drain Terminal. Can be an input or output.", 16 IN2 (in) "Logic Control Input."

## ADG436BN
designator U?
Dual SPDT Switches, 12 Ohm Ron, 16-pin DIP (N-16), Tube; Manufacturer: Analog Devices; PartNumber: ADG436BN; # Sw Functions: 2; Max Neg Supply: -20V; Max Pos Supply: +30V; Ron (ohms): 12, 20; t ON: 70ns, 100ns; DatasheetVersion: Rev. B; PackageVersion: 070706-A, 07/2006; PackageReference: N-16; PackageDescription: 16-Pin Plastic Dual In-Line Package, Row spacing 7.62 mm, Pitch 2.54 mm; Supplier 1: Digi-Key; Supplier Part Number 1: ADG436BN-ND; Configuration: SPDT; Packing: Tube; Mounting Technology: Through Hole; Code_JEDEC: MS-001; ComponentLink1Description: Manufacturer URL; ComponentLink1URL: http://www.analog.com/en/index.html; ComponentLink2Description: Datasheet; ComponentLink2URL: http://www.analog.com/static/imported-files/data_sheets/ADG436.pdf; ComponentLink3Description: Package Specification; ComponentLink3URL: http://www.analog.com/static/imported-files/packages/44768431550332N_16.pdf
footprint ADI-N-16 (DIP, 16-Leads, Body 20.07x6.6mm, Pitch 2.54mm)
pins: 1 IN1 (in) "Logic Control Input.", 2 S1A "Source Terminal. Can be an input or output.", 3 D1 "Drain Terminal. C be an input or output.", 4 S1B "Source Terminal. Can be an input or output.", 5 VSS (power) "Most Negative Power Supply Potential in Dual Supplies. In single-supply applications, it can be connected to ground.", 6 GND (power) "Ground (0 V) Reference.", 7 NC "No Connect.", 8 NC "No Connect.", 9 IN2 (in) "Logic Control Input.", 10 S2A "Source Terminal. Can be an input or output.", 11 D2 "Drain Terminal. C be an input or output.", 12 S2B "Source Terminal. Can be an input or output.", 13 VDD (power) "Most Positive Power Supply Potential.", 14 NC "No Connect.", 15 NC "No Connect.", 16 NC "No Connect."

## ADG436BNZ
designator U?
Dual SPDT Switches, 12 Ohm Ron, 16-pin DIP (N-16), Tube; Manufacturer: Analog Devices; PartNumber: ADG436BNZ; # Sw Functions: 2; Max Neg Supply: -20V; Max Pos Supply: +30V; Ron (ohms): 12, 20; t ON: 70ns, 100ns; DatasheetVersion: Rev. B; PackageVersion: 070706-A, 07/2006; PackageReference: N-16; PackageDescription: 16-Pin Plastic Dual In-Line Package, Row spacing 7.62 mm, Pitch 2.54 mm; Supplier 1: Digi-Key; Supplier Part Number 1: ADG436BNZ-ND; Supplier 2: Farnell; Supplier Part Number 2: 1438708; Supplier 3: Newark; Supplier Part Number 3: 19M8653; Supplier 4: Mouser; Supplier Part Number 4: 584-ADG436BNZ; Configuration: SPDT; Packing: Tube; Mounting Technology: Through Hole; Code_JEDEC: MS-001; ComponentLink1Description: Manufacturer URL; ComponentLink1URL: http://www.analog.com/en/index.html; ComponentLink2Description: Datasheet; ComponentLink2URL: http://www.analog.com/static/imported-files/data_sheets/ADG436.pdf; ComponentLink3Description: Package Specification; ComponentLink3URL: http://www.analog.com/static/imported-files/packages/44768431550332N_16.pdf
footprint ADI-N-16 (DIP, 16-Leads, Body 20.07x6.6mm, Pitch 2.54mm)
pins: 1 IN1 (in) "Logic Control Input.", 2 S1A "Source Terminal. Can be an input or output.", 3 D1 "Drain Terminal. C be an input or output.", 4 S1B "Source Terminal. Can be an input or output.", 5 VSS (power) "Most Negative Power Supply Potential in Dual Supplies. In single-supply applications, it can be connected to ground.", 6 GND (power) "Ground (0 V) Reference.", 7 NC "No Connect.", 8 NC "No Connect.", 9 IN2 (in) "Logic Control Input.", 10 S2A "Source Terminal. Can be an input or output.", 11 D2 "Drain Terminal. C be an input or output.", 12 S2B "Source Terminal. Can be an input or output.", 13 VDD (power) "Most Positive Power Supply Potential.", 14 NC "No Connect.", 15 NC "No Connect.", 16 NC "No Connect."

## ADG436BR
designator U?
Dual SPDT Switches, 12 Ohm Ron, 16-pin SOIC (R-16), Tube; Manufacturer: Analog Devices; PartNumber: ADG436BR; # Sw Functions: 2; Max Neg Supply: -20V; Max Pos Supply: +30V; Ron (ohms): 12, 20; t ON: 70ns, 100ns; DatasheetVersion: Rev. B; PackageVersion: 060606-A, 06/2006; PackageReference: R-16; PackageDescription: 16-Pin Standard Small Outline Package, Body 9.9 x 3.9 mm, Pitch 1.27 mm; Supplier 1: Digi-Key; Supplier Part Number 1: ADG436BR-ND; Supplier 2: Mouser; Supplier Part Number 2: 584-ADG436BR; Configuration: SPDT; Packing: Tube; Mounting Technology: Surface Mount; Code_JEDEC: MS-012-AC; ComponentLink1Description: Manufacturer URL; ComponentLink1URL: http://www.analog.com/en/index.html; ComponentLink2Description: Datasheet; ComponentLink2URL: http://www.analog.com/static/imported-files/data_sheets/ADG436.pdf; ComponentLink3Description: Package Specification; ComponentLink3URL: http://www.analog.com/static/imported-files/packages/PKG_PDF/SOIC_Narrow%20(R)/R_16.pdf
footprint ADI-R-16_N (SOIC, 16-Leads, Body 9.9x3.9mm, Pitch 1.27mm, IPC Medium Density)
footprint ADI-R-16_L (SOIC, 16-Leads, Body 9.9x3.9mm, Pitch 1.27mm, IPC High Density)
footprint ADI-R-16_M (SOIC, 16-Leads, Body 9.9x3.9mm, Pitch 1.27mm, IPC Low Density)
pins: 1 IN1 (in) "Logic Control Input.", 2 S1A "Source Terminal. Can be an input or output.", 3 D1 "Drain Terminal. C be an input or output.", 4 S1B "Source Terminal. Can be an input or output.", 5 VSS (power) "Most Negative Power Supply Potential in Dual Supplies. In single-supply applications, it can be connected to ground.", 6 GND (power) "Ground (0 V) Reference.", 7 NC "No Connect.", 8 NC "No Connect.", 9 IN2 (in) "Logic Control Input.", 10 S2A "Source Terminal. Can be an input or output.", 11 D2 "Drain Terminal. C be an input or output.", 12 S2B "Source Terminal. Can be an input or output.", 13 VDD (power) "Most Positive Power Supply Potential.", 14 NC "No Connect.", 15 NC "No Connect.", 16 NC "No Connect."

## ADG436BR-REEL
designator U?
Dual SPDT Switches, 12 Ohm Ron, 16-pin SOIC (R-16), Reel; Manufacturer: Analog Devices; PartNumber: ADG436BR-REEL; # Sw Functions: 2; Max Neg Supply: -20V; Max Pos Supply: +30V; Ron (ohms): 12, 20; t ON: 70ns, 100ns; DatasheetVersion: Rev. B; PackageVersion: 060606-A, 06/2006; PackageReference: R-16; PackageDescription: 16-Pin Standard Small Outline Package, Body 9.9 x 3.9 mm, Pitch 1.27 mm; Supplier 1: Digi-Key; Supplier Part Number 1: ADG436BR-REEL-ND; Supplier 2: Newark; Supplier Part Number 2: 09B7058; Supplier 3: Mouser; Supplier Part Number 3: 584-ADG436BR-R; Configuration: SPDT; Packing: Reel; Mounting Technology: Surface Mount; Code_JEDEC: MS-012-AC; ComponentLink1Description: Manufacturer URL; ComponentLink1URL: http://www.analog.com/en/index.html; ComponentLink2Description: Datasheet; ComponentLink2URL: http://www.analog.com/static/imported-files/data_sheets/ADG436.pdf; ComponentLink3Description: Package Specification; ComponentLink3URL: http://www.analog.com/static/imported-files/packages/PKG_PDF/SOIC_Narrow%20(R)/R_16.pdf
footprint ADI-R-16_N (SOIC, 16-Leads, Body 9.9x3.9mm, Pitch 1.27mm, IPC Medium Density)
footprint ADI-R-16_L (SOIC, 16-Leads, Body 9.9x3.9mm, Pitch 1.27mm, IPC High Density)
footprint ADI-R-16_M (SOIC, 16-Leads, Body 9.9x3.9mm, Pitch 1.27mm, IPC Low Density)
pins: 1 IN1 (in) "Logic Control Input.", 2 S1A "Source Terminal. Can be an input or output.", 3 D1 "Drain Terminal. C be an input or output.", 4 S1B "Source Terminal. Can be an input or output.", 5 VSS (power) "Most Negative Power Supply Potential in Dual Supplies. In single-supply applications, it can be connected to ground.", 6 GND (power) "Ground (0 V) Reference.", 7 NC "No Connect.", 8 NC "No Connect.", 9 IN2 (in) "Logic Control Input.", 10 S2A "Source Terminal. Can be an input or output.", 11 D2 "Drain Terminal. C be an input or output.", 12 S2B "Source Terminal. Can be an input or output.", 13 VDD (power) "Most Positive Power Supply Potential.", 14 NC "No Connect.", 15 NC "No Connect.", 16 NC "No Connect."

## ADG436BRZ
designator U?
Dual SPDT Switches, 12 Ohm Ron, 16-pin SOIC (R-16), Tube; Manufacturer: Analog Devices; PartNumber: ADG436BRZ; # Sw Functions: 2; Max Neg Supply: -20V; Max Pos Supply: +30V; Ron (ohms): 12, 20; t ON: 70ns, 100ns; DatasheetVersion: Rev. B; PackageVersion: 060606-A, 06/2006; PackageReference: R-16; PackageDescription: 16-Pin Standard Small Outline Package, Body 9.9 x 3.9 mm, Pitch 1.27 mm; Supplier 1: Digi-Key; Supplier Part Number 1: ADG436BRZ-ND; Supplier 2: Farnell; Supplier Part Number 2: 1438881; Supplier 3: Newark; Supplier Part Number 3: 20X5503; Supplier 4: Newark; Supplier Part Number 4: 15P0373; Supplier 5: Newark; Supplier Part Number 5: 59K1293; Supplier 6: Mouser; Supplier Part Number 6: 584-ADG436BRZ; Configuration: SPDT; Packing: Tube; Mounting Technology: Surface Mount; Code_JEDEC: MS-012-AC; ComponentLink1Description: Manufacturer URL; ComponentLink1URL: http://www.analog.com/en/index.html; ComponentLink2Description: Datasheet; ComponentLink2URL: http://www.analog.com/static/imported-files/data_sheets/ADG436.pdf; ComponentLink3Description: Package Specification; ComponentLink3URL: http://www.analog.com/static/imported-files/packages/PKG_PDF/SOIC_Narrow%20(R)/R_16.pdf
footprint ADI-R-16_N (SOIC, 16-Leads, Body 9.9x3.9mm, Pitch 1.27mm, IPC Medium Density)
footprint ADI-R-16_L (SOIC, 16-Leads, Body 9.9x3.9mm, Pitch 1.27mm, IPC High Density)
footprint ADI-R-16_M (SOIC, 16-Leads, Body 9.9x3.9mm, Pitch 1.27mm, IPC Low Density)
pins: 1 IN1 (in) "Logic Control Input.", 2 S1A "Source Terminal. Can be an input or output.", 3 D1 "Drain Terminal. C be an input or output.", 4 S1B "Source Terminal. Can be an input or output.", 5 VSS (power) "Most Negative Power Supply Potential in Dual Supplies. In single-supply applications, it can be connected to ground.", 6 GND (power) "Ground (0 V) Reference.", 7 NC "No Connect.", 8 NC "No Connect.", 9 IN2 (in) "Logic Control Input.", 10 S2A "Source Terminal. Can be an input or output.", 11 D2 "Drain Terminal. C be an input or output.", 12 S2B "Source Terminal. Can be an input or output.", 13 VDD (power) "Most Positive Power Supply Potential.", 14 NC "No Connect.", 15 NC "No Connect.", 16 NC "No Connect."

## ADG436BRZ-REEL
designator U?
Dual SPDT Switches, 12 Ohm Ron, 16-pin SOIC (R-16), Reel; Manufacturer: Analog Devices; PartNumber: ADG436BRZ-REEL; # Sw Functions: 2; Max Neg Supply: -20V; Max Pos Supply: +30V; Ron (ohms): 12, 20; t ON: 70ns, 100ns; DatasheetVersion: Rev. B; PackageVersion: 060606-A, 06/2006; PackageReference: R-16; PackageDescription: 16-Pin Standard Small Outline Package, Body 9.9 x 3.9 mm, Pitch 1.27 mm; Supplier 1: Digi-Key; Supplier Part Number 1: ADG436BRZ-REELTR-ND; Supplier 2: Digi-Key; Supplier Part Number 2: ADG436BRZ-REELCT-ND; Supplier 3: Digi-Key; Supplier Part Number 3: ADG436BRZ-REELDKR-ND; Supplier 4: Newark; Supplier Part Number 4: 59K1294; Supplier 5: Mouser; Supplier Part Number 5: 584-ADG436BRZ-R; Configuration: SPDT; Packing: Reel; Mounting Technology: Surface Mount; Code_JEDEC: MS-012-AC; ComponentLink1Description: Manufacturer URL; ComponentLink1URL: http://www.analog.com/en/index.html; ComponentLink2Description: Datasheet; ComponentLink2URL: http://www.analog.com/static/imported-files/data_sheets/ADG436.pdf; ComponentLink3Description: Package Specification; ComponentLink3URL: http://www.analog.com/static/imported-files/packages/PKG_PDF/SOIC_Narrow%20(R)/R_16.pdf
footprint ADI-R-16_N (SOIC, 16-Leads, Body 9.9x3.9mm, Pitch 1.27mm, IPC Medium Density)
footprint ADI-R-16_L (SOIC, 16-Leads, Body 9.9x3.9mm, Pitch 1.27mm, IPC High Density)
footprint ADI-R-16_M (SOIC, 16-Leads, Body 9.9x3.9mm, Pitch 1.27mm, IPC Low Density)
pins: 1 IN1 (in) "Logic Control Input.", 2 S1A "Source Terminal. Can be an input or output.", 3 D1 "Drain Terminal. C be an input or output.", 4 S1B "Source Terminal. Can be an input or output.", 5 VSS (power) "Most Negative Power Supply Potential in Dual Supplies. In single-supply applications, it can be connected to ground.", 6 GND (power) "Ground (0 V) Reference.", 7 NC "No Connect.", 8 NC "No Connect.", 9 IN2 (in) "Logic Control Input.", 10 S2A "Source Terminal. Can be an input or output.", 11 D2 "Drain Terminal. C be an input or output.", 12 S2B "Source Terminal. Can be an input or output.", 13 VDD (power) "Most Positive Power Supply Potential.", 14 NC "No Connect.", 15 NC "No Connect.", 16 NC "No Connect."

## ADG441ABR-REEL
designator U?
LC2MOS Quad SPST Switches, 40 Ohm Ron, 16-pin SOIC (R-16), Reel; Manufacturer: Analog Devices; PartNumber: ADG441ABR-REEL; # Sw Functions: 4; Max Neg Supply: -16.5V; Max Pos Supply: +16.5V; Ron (ohms): 40, 70; t ON: 85ns, 105ns; DatasheetVersion: Rev. A; PackageVersion: 060606-A, 06/2006; PackageReference: R-16; PackageDescription: 16-Pin Standard Small Outline Package, Body 9.9 x 3.9 mm, Pitch 1.27 mm; Supplier 1: Digi-Key; Supplier Part Number 1: ADG441ABR-REELTR-ND; Supplier 2: Digi-Key; Supplier Part Number 2: ADG441ABR-REELCT-ND; Supplier 3: Digi-Key; Supplier Part Number 3: ADG441ABR-REELDKR-ND; Supplier 4: Mouser; Supplier Part Number 4: 584-ADG441ABR-R; Configuration: SPST; Packing: Reel; Mounting Technology: Surface Mount; Code_JEDEC: MS-012-AC; ComponentLink1Description: Manufacturer URL; ComponentLink1URL: http://www.analog.com/en/index.html; ComponentLink2Description: Datasheet; ComponentLink2URL: http://www.analog.com/static/imported-files/data_sheets/ADG441_442_444.pdf; ComponentLink3Description: Package Specification; ComponentLink3URL: http://www.analog.com/static/imported-files/packages/PKG_PDF/SOIC_Narrow%20(R)/R_16.pdf
footprint ADI-R-16_N (SOIC, 16-Leads, Body 9.9x3.9mm, Pitch 1.27mm, IPC Medium Density)
footprint ADI-R-16_L (SOIC, 16-Leads, Body 9.9x3.9mm, Pitch 1.27mm, IPC High Density)
footprint ADI-R-16_M (SOIC, 16-Leads, Body 9.9x3.9mm, Pitch 1.27mm, IPC Low Density)
pins: 1 IN1 (in) "Logic Control Input.", 2 D1 "Drain Terminal. May be an input or output.", 3 S1 "Source Terminal. May be an input or output.", 4 VSS (power) "Most Negative Power Supply Potential in Dual Supplies. In single supply applications, it may be connected to GND.", 5 GND (power) "Ground (0 V) Reference.", 6 S4 "Source Terminal. May be an input or output.", 7 D4 "Drain Terminal. May be an input or output.", 8 IN4 (in) "Logic Control Input.", 9 IN3 (in) "Logic Control Input.", 10 D3 "Drain Terminal. May be an input or output.", 11 S3 "Source Terminal. May be an input or output.", 12 NC "No Connect.", 13 VDD (power) "Most Positive Power Supply Potential.", 14 S2 "Source Terminal. May be an input or output.", 15 D2 "Drain Terminal. May be an input or output.", 16 IN2 (in) "Logic Control Input."

## ADG441ABRZ-REEL
designator U?
LC2MOS Quad SPST Switches, 40 Ohm Ron, 16-pin SOIC (R-16), Reel; Manufacturer: Analog Devices; PartNumber: ADG441ABRZ-REEL; # Sw Functions: 4; Max Neg Supply: -16.5V; Max Pos Supply: +16.5V; Ron (ohms): 40, 70; t ON: 85ns, 105ns; DatasheetVersion: Rev. A; PackageVersion: 060606-A, 06/2006; PackageReference: R-16; PackageDescription: 16-Pin Standard Small Outline Package, Body 9.9 x 3.9 mm, Pitch 1.27 mm; Supplier 1: Digi-Key; Supplier Part Number 1: ADG441ABRZ-REELTR-ND; Supplier 2: Digi-Key; Supplier Part Number 2: ADG441ABRZ-REELCT-ND; Supplier 3: Digi-Key; Supplier Part Number 3: ADG441ABRZ-REELDKR-ND; Supplier 4: Mouser; Supplier Part Number 4: 584-ADG441ABRZ-R; Configuration: SPST; Packing: Reel; Mounting Technology: Surface Mount; Code_JEDEC: MS-012-AC; ComponentLink1Description: Manufacturer URL; ComponentLink1URL: http://www.analog.com/en/index.html; ComponentLink2Description: Datasheet; ComponentLink2URL: http://www.analog.com/static/imported-files/data_sheets/ADG441_442_444.pdf; ComponentLink3Description: Package Specification; ComponentLink3URL: http://www.analog.com/static/imported-files/packages/PKG_PDF/SOIC_Narrow%20(R)/R_16.pdf
footprint ADI-R-16_N (SOIC, 16-Leads, Body 9.9x3.9mm, Pitch 1.27mm, IPC Medium Density)
footprint ADI-R-16_L (SOIC, 16-Leads, Body 9.9x3.9mm, Pitch 1.27mm, IPC High Density)
footprint ADI-R-16_M (SOIC, 16-Leads, Body 9.9x3.9mm, Pitch 1.27mm, IPC Low Density)
pins: 1 IN1 (in) "Logic Control Input.", 2 D1 "Drain Terminal. May be an input or output.", 3 S1 "Source Terminal. May be an input or output.", 4 VSS (power) "Most Negative Power Supply Potential in Dual Supplies. In single supply applications, it may be connected to GND.", 5 GND (power) "Ground (0 V) Reference.", 6 S4 "Source Terminal. May be an input or output.", 7 D4 "Drain Terminal. May be an input or output.", 8 IN4 (in) "Logic Control Input.", 9 IN3 (in) "Logic Control Input.", 10 D3 "Drain Terminal. May be an input or output.", 11 S3 "Source Terminal. May be an input or output.", 12 NC "No Connect.", 13 VDD (power) "Most Positive Power Supply Potential.", 14 S2 "Source Terminal. May be an input or output.", 15 D2 "Drain Terminal. May be an input or output.", 16 IN2 (in) "Logic Control Input."

## ADG441BN
designator U?
LC2MOS Quad SPST Switches, 40 Ohm Ron, 16-pin DIP (N-16), Tube; Manufacturer: Analog Devices; PartNumber: ADG441BN; # Sw Functions: 4; Max Neg Supply: -16.5V; Max Pos Supply: +16.5V; Ron (ohms): 40, 70; t ON: 85ns, 105ns; DatasheetVersion: Rev. A; PackageVersion: 070706-A, 07/2006; PackageReference: N-16; PackageDescription: 16-Pin Plastic Dual In-Line Package, Row spacing 7.62 mm, Pitch 2.54 mm; Supplier 1: Digi-Key; Supplier Part Number 1: ADG441BN-ND; Configuration: SPST; Packing: Tube; Mounting Technology: Through Hole; Code_JEDEC: MS-001; ComponentLink1Description: Manufacturer URL; ComponentLink1URL: http://www.analog.com/en/index.html; ComponentLink2Description: Datasheet; ComponentLink2URL: http://www.analog.com/static/imported-files/data_sheets/ADG441_442_444.pdf; ComponentLink3Description: Package Specification; ComponentLink3URL: http://www.analog.com/static/imported-files/packages/44768431550332N_16.pdf
footprint ADI-N-16 (DIP, 16-Leads, Body 20.07x6.6mm, Pitch 2.54mm)
pins: 1 IN1 (in) "Logic Control Input.", 2 D1 "Drain Terminal. May be an input or output.", 3 S1 "Source Terminal. May be an input or output.", 4 VSS (power) "Most Negative Power Supply Potential in Dual Supplies. In single-supply applications, it may be connected to ground.", 5 GND (power) "Ground (0 V) Reference.", 6 S4 "Source Terminal. May be an input or output.", 7 D4 "Drain Terminal. May be an input or output.", 8 IN4 (in) "Logic Control Input.", 9 IN3 (in) "Logic Control Input.", 10 D3 "Drain Terminal. May be an input or output.", 11 S3 "Source Terminal. May be an input or output.", 12 NC "No Connect.", 13 VDD (power) "Most Positive Power Supply Potential.", 14 S2 "Source Terminal. May be an input or output.", 15 D2 "Drain Terminal. May be an input or output.", 16 IN2 (in) "Logic Control Input."